# Altium schematic symbol library REF50xx.Schlib: 1 symbol
Pins are listed as number, name and electrical type; pins without a type are passive.

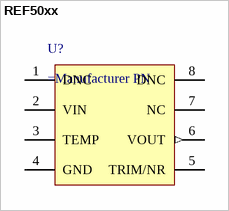
[diagram p0: symbol REF50xx]

## REF50xx
designator U?
REF50xx Series Voltage Reference
pins: 1 DNC, 2 VIN (power), 3 TEMP, 4 GND (power), 5 TRIM/NR, 6 VOUT (out), 7 NC, 8 DNC